# EAGLE library part CX70M-24PX (library NM_Visual_Cortex_12-10-18)
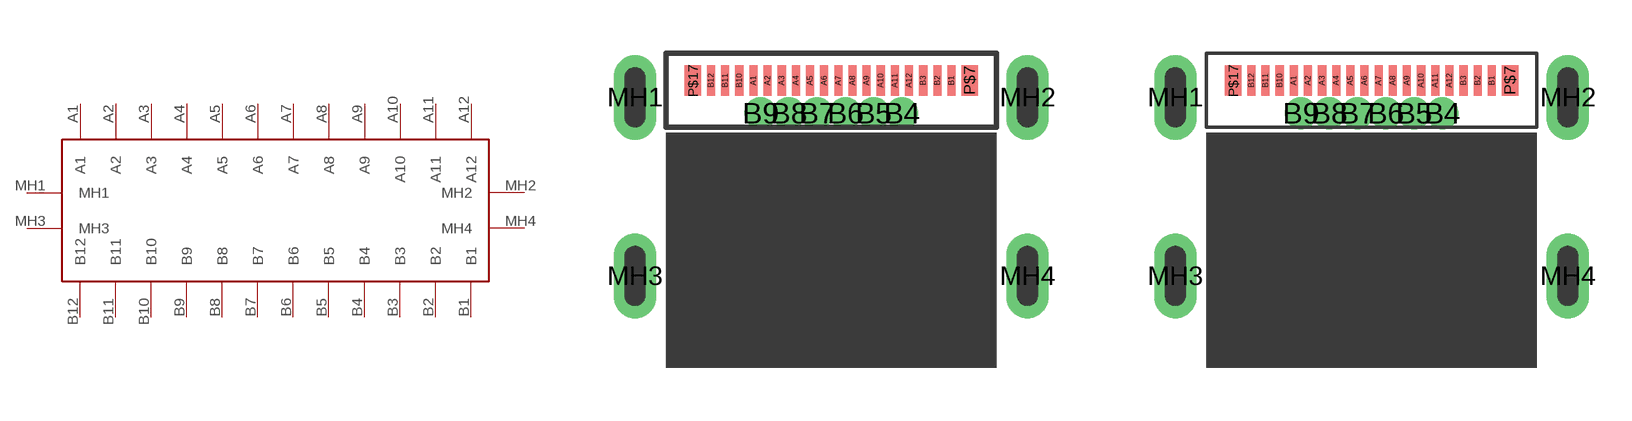
[diagram p13: symbol with the pads of CX70M-24P1; footprints CX70M-24P1, CX70M-24P2]

Designator prefix -

## CX70M-24PXLONG  [CX70M-24P1]
A1  A1
A2  A2
A3  A3
A4  A4
A5  A5
A6  A6
A7  A7
A8  A8
A9  A9
A10  A10
A11  A11
A12  A12
B1  B1
B2  B2
B3  B3
B4  B4
B5  B5
B6  B6
B7  B7
B8  B8
B9  B9
B10  B10
B11  B11
B12  B12
MH1  MH1
MH2  MH2
MH3  MH3
MH4  MH4

## CX70M-24PXSHORT  [CX70M-24P2]
Pads as for CX70M-24P1

## Footprint CX70M-24P1 (pad centres in mm)
smd 0.23 x 0.85: A1 -2.2,8.125; A2 -1.8,8.125; A3 -1.4,8.125; A4 -1,8.125; A5 -0.6,8.125; A6 -0.2,8.125; A7 0.2,8.125; A8 0.6,8.125; A9 1,8.125; A10 1.4,8.125; A11 1.8,8.125; A12 2.2,8.125; B1 3.4,8.125; B2 3,8.125; B3 2.6,8.125; B10 -2.6,8.125; B11 -3,8.125; B12 -3.4,8.125
drill 0.4 pad 0.6: B4 2,7.2; B5 1.2,7.2; B6 0.4,7.2; B7 -0.4,7.2; B8 -1.2,7.2; B9 -2,7.2
drill 0.6 pad 1.2 long: MH1 -5.55,7.65; MH2 5.55,7.65; MH3 -5.55,2.6; MH4 5.55,2.6
smd 0.46 x 0.85: P$7 3.915,8.125; P$17 -3.915,8.125

## Footprint CX70M-24P2 (pad centres in mm)
smd 0.23 x 0.85: A1 -2.2,8.125; A2 -1.8,8.125; A3 -1.4,8.125; A4 -1,8.125; A5 -0.6,8.125; A6 -0.2,8.125; A7 0.2,8.125; A8 0.6,8.125; A9 1,8.125; A10 1.4,8.125; A11 1.8,8.125; A12 2.2,8.125; B1 3.4,8.125; B2 3,8.125; B3 2.6,8.125; B10 -2.6,8.125; B11 -3,8.125; B12 -3.4,8.125
drill 0.4 pad 0.6: B4 2,7.2; B5 1.2,7.2; B6 0.4,7.2; B7 -0.4,7.2; B8 -1.2,7.2; B9 -2,7.2
drill 0.6 pad 1.2 long: MH1 -5.55,7.65; MH2 5.55,7.65; MH3 -5.55,2.6; MH4 5.55,2.6
smd 0.46 x 0.85: P$7 3.915,8.125; P$17 -3.915,8.125